# EAGLE library part MC9S08SH8-8 (library freescale-hcs08)
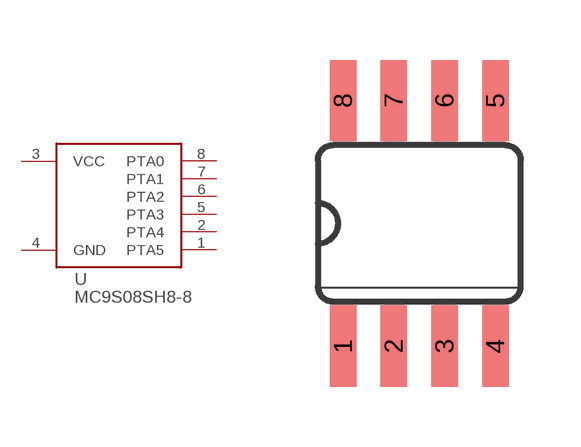
[diagram p4: symbol with the pads of SO08; footprint SO08]

Designator prefix -

## MC9S08SH8-8  [SO08]
1  PTA5
2  PTA4
3  VCC
4  GND
5  PTA3
6  PTA2
7  PTA1
8  PTA0

## Footprint SO08 (pad centres in mm)
Small Outline Package
smd 0.66 x 2.032: 1 -1.905,-3.073; 2 -0.635,-3.073; 3 0.635,-3.073; 4 1.905,-3.073; 5 1.905,3.073; 6 0.635,3.073; 7 -0.635,3.073; 8 -1.905,3.073